# Altium footprint library MSB-PCB-1R1.PcbLib: 24 footprints (part 2 of 2)
Each footprint in its own frame and in the unit in brackets; x right, y up, seen from the top. Pads: shape width x height; smd on the part's side, far side on the other; paste and mask are expansions set on the pad; w line width, h text height; cw(c..) or ccw(c..) is an arc to the next point about the centre after c.
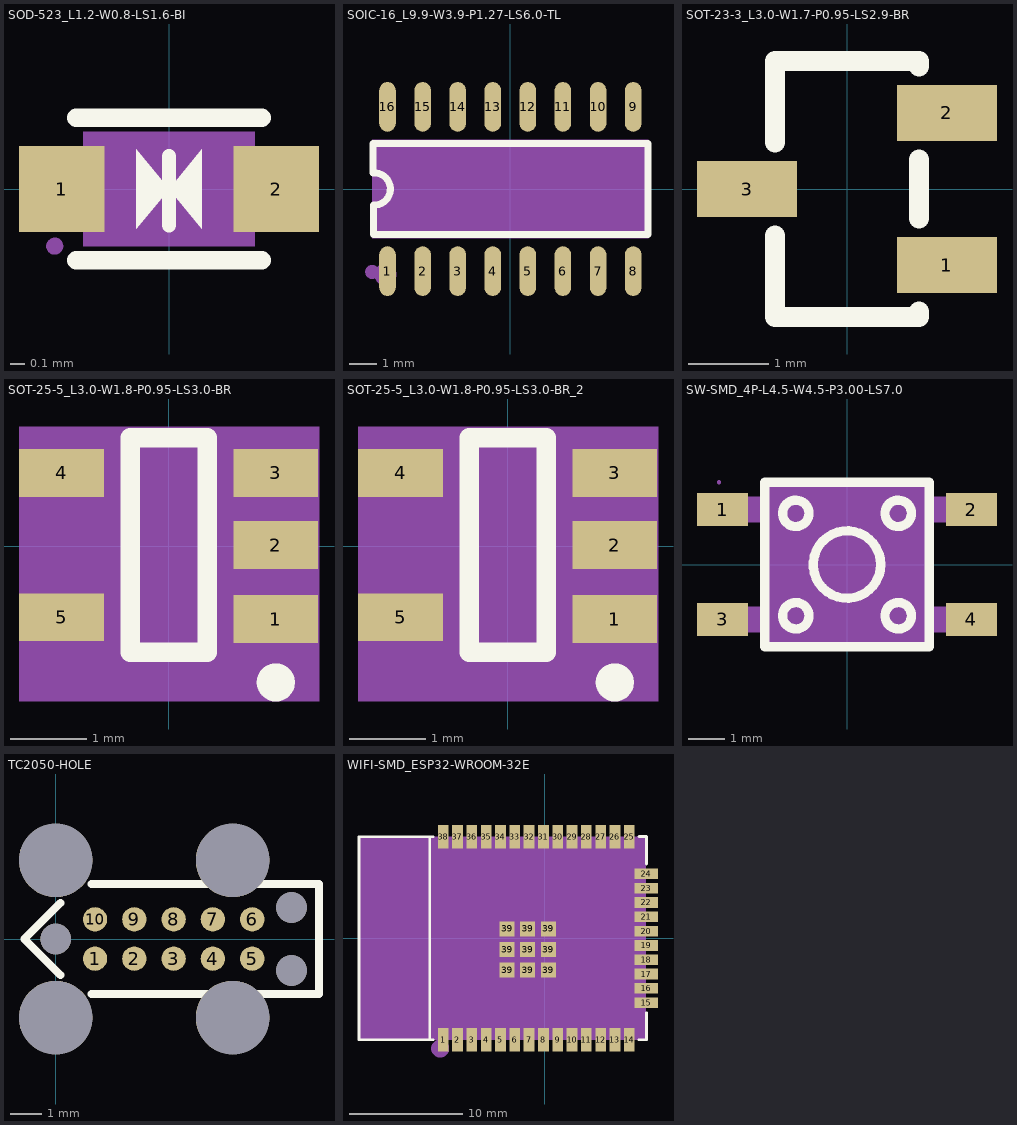
[diagram p1: the footprints below, top view; thin cyan lines are the x and y axes]

## SOD-523_L1.2-W0.8-LS1.6-BI [mm]
pads (2):
  rect 0.6x0.6 smd: 1(-0.75,0) 2(0.75,0)
Top Overlay:
  region: 0,0 0.229,0.279 0.229,-0.279
  region: 0,0 -0.229,-0.279 -0.229,0.279
  lines w0.1: 0,-0.254 0,0.229
  lines w0.13: -0.65,-0.5 0.65,-0.5 ; -0.65,0.5 0.65,0.5
Mechanical 4:
  region: -0.6,-0.4 -0.6,0.4 0.6,0.4 0.6,-0.4
Mechanical 5:
  region: 0.8,-0.152 0.463,-0.152 0.463,0.148 0.8,0.148
  region: -0.8,0.15 -0.463,0.15 -0.463,-0.15 -0.8,-0.15
Mechanical 6:
  circle w0.06: c-0.8,-0.4 r0.03
Mechanical 15:
  region: -0.229,0.279 -0.229,-0.279 0,0
  region: 0.229,0.279 0.229,-0.279 0,0

## SOIC-16_L9.9-W3.9-P1.27-LS6.0-TL [mm]
pads (16):
  oval 0.6x1.8 smd: 1(-4.445,-2.972) 2(-3.175,-2.972) 3(-1.905,-2.972) 4(-0.635,-2.972) 5(0.635,-2.972) 6(1.905,-2.972) 7(3.175,-2.972) 8(4.445,-2.972) 9(4.445,2.972) 10(3.175,2.972) 11(1.905,2.972) 12(0.635,2.972) 13(-0.635,2.972) 14(-1.905,2.972) 15(-3.175,2.972) 16(-4.445,2.972)
Top Overlay:
  lines w0.254: -4.976,0.584 -4.976,1.651 4.976,1.651 4.976,-1.651 2.703,-1.651 -2.655,-1.651 -4.953,-1.651 -4.953,-0.584 ccw(c-4.928,0) -4.95,0.584
Mechanical 4:
  region: -5,1.778 5,1.778 5,-1.778 -5,-1.778
Mechanical 6:
  circle w0.254: c-5,-3 r0.127
Mechanical 15:
  circle w0.4: c-4.521,-3.099 r0.2

## SOT-23-3_L3.0-W1.7-P0.95-LS2.9-BR [mm]
pads (3):
  rect 1.25x0.7 smd: 1(1.25,-0.95) 2(1.25,0.95) 3(-1.25,0)
Top Overlay:
  lines w0.254: -0.9,-0.581 -0.9,-1.6 0.9,-1.6 0.9,-1.531 ; -0.9,0.581 -0.9,1.6 0.9,1.6 0.9,1.531 ; 0.9,-0.369 0.9,0.369

## SOT-25-5_L3.0-W1.8-P0.95-LS3.0-BR [mil]
pads (5):
  rect 43.5x24.5 smd: 1(55,-37.5) 2(55,0.5) 3(55,37.5) 4(-55,37.5) 5(-55,-36.5)
Top Overlay:
  lines w9.8: 59.9,-70.05 cw(c55,-70) 59.9,-69.95
  lines w10: -19.7,-54.6 -19.7,55.6 19.7,55.6 19.7,-54.6 -19.7,-54.6
Mechanical 4:
  region: -76.83,61.33 77.17,61.33 77.17,-79.8 -76.83,-79.8
Mechanical 5:
  region: -76.75,49.75 -33.25,49.75 -33.25,25.25 -76.75,25.25
  region: -76.75,-24.25 -33.25,-24.25 -33.25,-48.75 -76.75,-48.75
  region: 33.25,-25.25 76.75,-25.25 76.75,-49.75 33.25,-49.75
  region: 33.25,12.75 76.75,12.75 76.75,-11.75 33.25,-11.75
  region: 33.25,49.75 76.75,49.75 76.75,25.25 33.25,25.25

## SOT-25-5_L3.0-W1.8-P0.95-LS3.0-BR_2 [mil]
pads (5):
  rect 43.5x24.5 smd: 1(55,-37.5) 2(55,0.5) 3(55,37.5) 4(-55,37.5) 5(-55,-36.5)
Top Overlay:
  lines w9.8: 59.9,-70.05 cw(c55,-70) 59.9,-69.95
  lines w10: -19.7,-54.6 19.7,-54.6 19.7,55.6 -19.7,55.6 -19.7,-54.6
Mechanical 4:
  region: -76.83,61.33 77.17,61.33 77.17,-79.8 -76.83,-79.8
Mechanical 5:
  region: 33.25,49.75 76.75,49.75 76.75,25.25 33.25,25.25
  region: 33.25,12.75 76.75,12.75 76.75,-11.75 33.25,-11.75
  region: 33.25,-25.25 76.75,-25.25 76.75,-49.75 33.25,-49.75
  region: -76.75,-24.25 -33.25,-24.25 -33.25,-48.75 -76.75,-48.75
  region: -76.75,49.75 -33.25,49.75 -33.25,25.25 -76.75,25.25

## SW-SMD_4P-L4.5-W4.5-P3.00-LS7.0 [mm]
pads (4):
  rect 1.4x0.9 smd: 1(-3.4,1.5) 2(3.4,1.5) 3(-3.4,-1.5) 4(3.4,-1.5)
Top Overlay:
  circle w0.254: c0,0 r0.922
  circle w0.254: c1.4,1.4 r0.361
  circle w0.254: c-1.4,1.4 r0.361
  circle w0.254: c-1.4,-1.4 r0.361
  circle w0.254: c1.4,-1.4 r0.361
  lines w0.254: -2.25,-2.25 2.25,-2.25 2.25,2.25 -2.25,2.25 -2.25,-2.25
Mechanical 4:
  region: -2.25,-2.25 -2.25,2.25 2.25,2.25 2.25,-2.25
Mechanical 5:
  pour cut-out: 2.24,-1.85 2.24,-1.15 3.01,-1.15 3.01,-1.85
  region: 3,-1.85 3,-1.15 3.5,-1.15 3.5,-1.85
  pour cut-out: -3.01,-1.85 -3.01,-1.15 -2.24,-1.15 -2.24,-1.85
  region: -3.5,-1.85 -3.5,-1.15 -3,-1.15 -3,-1.85
  pour cut-out: 2.24,1.15 2.24,1.85 3.01,1.85 3.01,1.15
  region: 3,1.15 3,1.85 3.5,1.85 3.5,1.15
  pour cut-out: -3.01,1.15 -3.01,1.85 -2.24,1.85 -2.24,1.15
  region: -3.5,1.15 -3.5,1.85 -3,1.85 -3,1.15
Mechanical 6:
  circle w0.06: c-3.5,2.25 r0.03

## TC2050-HOLE [mm]
pads (17):
  round 0.787 smd: 1(1.27,-0.635) 2(2.54,-0.635) 3(3.81,-0.635) 4(5.08,-0.635) 5(6.35,-0.635) 6(6.35,0.635) 7(5.08,0.635) 8(3.81,0.635) 9(2.54,0.635) 10(1.27,0.635)
  round 2.375 hole 2.375 unplated: ""(0,-2.54) ""(0,2.54) ""(5.715,-2.54) ""(5.715,2.54)
  round 0.991 hole 0.991 unplated: ""(0,0) ""(7.62,-1.016) ""(7.62,1.016)
Top Overlay:
  lines w0.254: 0.153,-1.169 -1.016,0 ; 1.151,-1.778 2.024,-1.778 4.473,-1.778 ; 1.151,1.778 2.024,1.778 ; 1.867,1.778 4.326,1.778 5.842,1.778 8.509,1.778 8.509,-1.778 4.326,-1.778 ; -1.016,0 0.153,1.169 -1.016,0

## WIFI-SMD_ESP32-WROOM-32E [mm]
pads (47):
  rect 0.95x2.1 smd: 1(-9.002,-9) 2(-7.732,-9) 3(-6.462,-9) 4(-5.192,-9) 5(-3.922,-9) 6(-2.652,-9) 7(-1.382,-9) 8(-0.112,-9) 9(1.158,-9) 10(2.428,-9) 11(3.698,-9) 12(4.968,-9) 13(6.238,-9) 14(7.508,-9) 25(7.507,9) 26(6.237,9) 27(4.967,9) 28(3.697,9) 29(2.427,9) 30(1.157,9) 31(-0.113,9) 32(-1.383,9) 33(-2.653,9) 34(-3.923,9) 35(-5.193,9) 36(-6.463,9) 37(-7.733,9) 38(-9.003,9)
  rect 2.1x0.95 smd: 15(9.002,-5.715) 16(9.002,-4.445) 17(9.002,-3.175) 18(9.002,-1.905) 19(9.002,-0.635) 20(9.002,0.635) 21(9.002,1.905) 22(9.002,3.175) 23(9.002,4.445) 24(9.002,5.715)
  rect 1.33x1.33 smd: 39(-3.337,-2.835) 39(-3.337,-1) 39(-3.337,0.835) 39(-1.502,-2.835) 39(-1.502,-1) 39(-1.502,0.835) 39(0.333,-2.835) 39(0.333,-1) 39(0.333,0.835)
Top Overlay:
  lines w0.254: -10.192,-9 -10.192,9 ; -9.906,-9 -16.476,-9 -16.476,9 -9.906,9 ; 8.382,-9 9.024,-9 9.024,-6.604 ; 8.382,9.017 9.024,9.017 9.024,6.604
Mechanical 4:
  region: -16.528,-9 -16.528,9 8.972,9 8.972,-9
Mechanical 5:
  drawing of 47 lines, arcs and shapes, not listed
Mechanical 6:
  circle w0.06: c-16.528,-9 r0.03
Mechanical 15:
  circle w0.8: c-9.264,-9.779 r0.4